# Altium footprint library WL-STSB.PcbLib: 1 footprints
Each footprint in its own frame and in the unit in brackets; x right, y up, seen from the top. Pads: shape width x height; smd on the part's side, far side on the other; paste and mask are expansions set on the pad; w line width, h text height; cw(c..) or ccw(c..) is an arc to the next point about the centre after c.
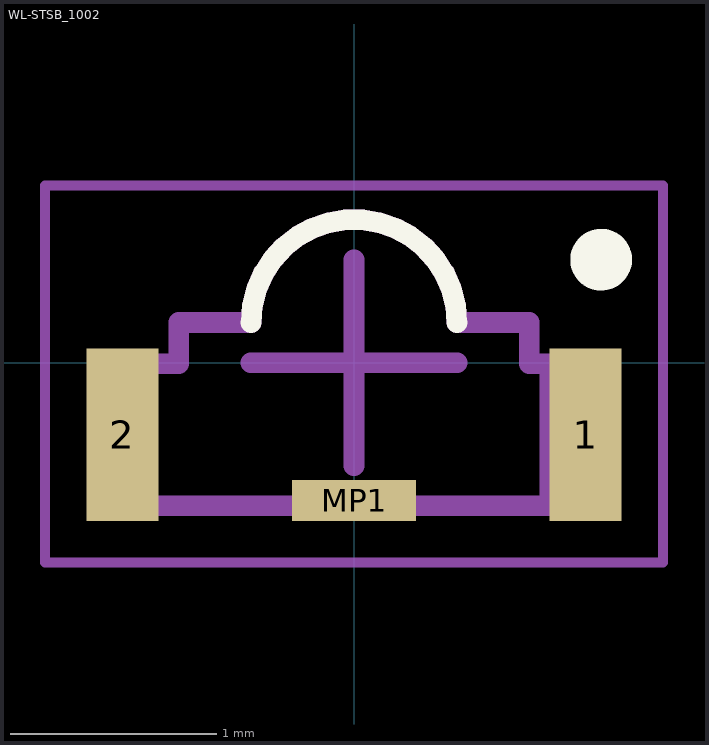
[diagram p0: the footprint, top view; thin cyan lines are the x and y axes]

## WL-STSB_1002 [mm] "SMT Phototransistor Sideview Black, body 2.4x1.39mm"
height 0.6
pads (3):
  rect 0.35x0.84 smd: 1(1.125,-0.35) 2(-1.125,-0.35)
  rect 0.6x0.2 smd: MP1(0,-0.67)
Top Overlay:
  circle w0.15: c1.2,0.5 r0.075
  lines w0.1: -0.5,0.195 cw(c0,0.195) 0.5,0.195
Top Assembly:
  rectangle: 0.9,-0.7 1.2,-0.005
  lines w0.1: -1.2,-0.695 -1.2,-0.005 -0.85,-0.005 -0.85,0.195 -0.5,0.195 cw(c0,0.195) 0.5,0.195 0.85,0.195 0.85,-0.005 1.2,-0.005 1.2,-0.695 -1.2,-0.695
Top Designator:
  text ".Designator" at -3.647,-0.357 h1
Top 3D Body:
  rectangle: 0.9,-0.7 1.2,-0.005
  lines w0.1: -1.2,-0.695 -1.2,-0.005 -0.85,-0.005 -0.85,0.195 -0.5,0.195 cw(c0,0.195) 0.5,0.195 0.85,0.195 0.85,-0.005 1.2,-0.005 1.2,-0.695 -1.2,-0.695
Top Courtyard:
  lines w0.05: -1.5,-0.97 -1.5,0.86 1.5,0.86 1.5,-0.97 -1.5,-0.97
Top Component Center:
  lines w0.1: -0.5,0 0.5,0 ; 0,-0.5 0,0.5
3D body "1541021NCA070.stp": height 0.6, standoff 0, extent -1.2,-0.74 1.2,0.65